# Altium schematic symbol library AO4606.SchLib: 1 symbol
Pins are listed as number, name and electrical type; pins without a type are passive.

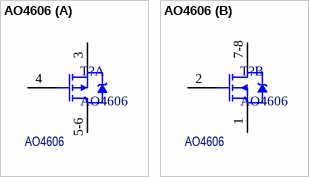
[diagram p0: symbol AO4606]

## AO4606
designator T?
30V N+P-Channel Enhancement Mode MOSFET; Потребление, Вт: 0; Назначение: 30V N+P-Channel Enhancement Mode MOSFET; ComponentLink1Description: Datasheet; ComponentLink1URL: https://static.chipdip.ru/lib/336/DOC014336194.pdf; Наименование: AO4606
footprint AO4606
part A pins: 3 S1, 4 G1, 5-6 D1
part B pins: 1 S2, 2 G2, 7-8 D2